# Altium integrated library LCD_TFT.IntLib: 2 symbols
Pins are listed as number, name and electrical type; pins without a type are passive.

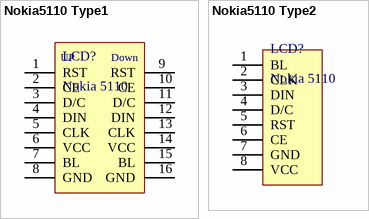
[diagram p0: symbols Nokia5110 Type1 to Nokia5110 Type2]

## Nokia5110 Type1
designator LCD?, comment Nokia 5110
footprint NOKIA-5110
pins: 1 RST, 2 CE, 3 D/C, 4 DIN, 5 CLK, 6 VCC, 7 BL, 8 GND, 9 RST, 10 CE, 11 D/C, 12 DIN, 13 CLK, 14 VCC, 15 BL, 16 GND
text: UP; Down

## Nokia5110 Type2
designator LCD?, comment Nokia 5110
footprint NOKIA-5110
pins: 1 BL, 2 CLK, 3 DIN, 4 D/C, 5 RST, 6 CE, 7 GND, 8 VCC